# EAGLE library part IRF7313 (library timepix_board)
DUAL N MOSFET
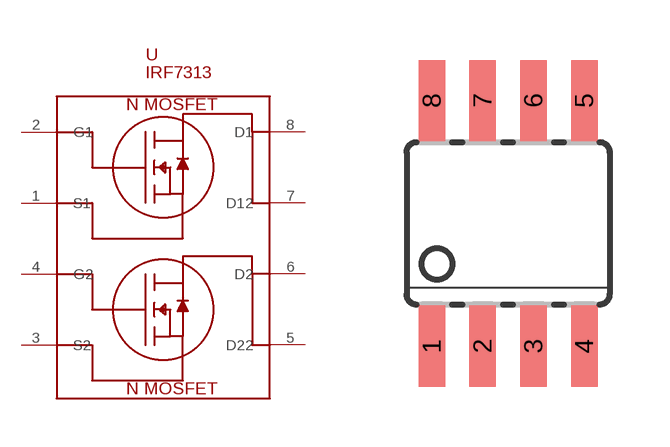
[diagram p6: symbol with the pads of SOIC08; footprint SOIC08]

Designator prefix -

## IRF7313  [SOIC08]
1  S1
2  G1
3  S2
4  G2
5  D22
6  D2
7  D12
8  D1

## Footprint SOIC08 (pad centres in mm)
Small Outline Package
smd 0.66 x 2.032: 1 -1.905,-3.073; 2 -0.635,-3.073; 3 0.635,-3.073; 4 1.905,-3.073; 5 1.905,3.073; 6 0.635,3.073; 7 -0.635,3.073; 8 -1.905,3.073